# EAGLE library part 2.54_14P_SMD_HDR (library P1AM)
2.54mm (0.1") Pitch SIL SMT Pin Header, selective gold + tin, 10 contacts Source: Datasheet <https://cdn.harwin.com/pdfs/M20-877.pdf>
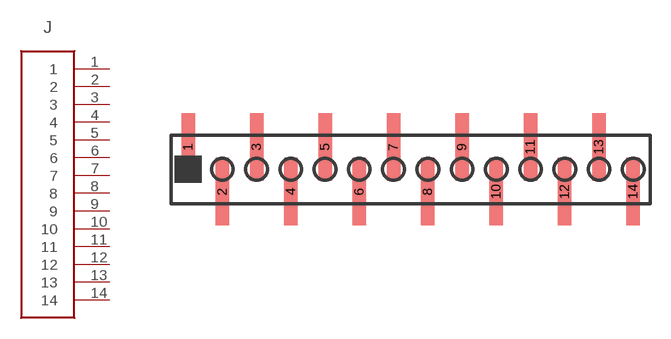
[diagram p1: symbol with the pads of 2.54_14P_SMD_HDR; footprint 2.54_14P_SMD_HDR]

Designator prefix J

## 2.54_14P_SMD_HDR  [2.54_14P_SMD_HDR]
1  1
2  2
3  3
4  4
5  5
6  6
7  7
8  8
9  9
10  10
11  11
12  12
13  13
14  14

## Footprint 2.54_14P_SMD_HDR (pad centres in mm)
smd 1 x 5: 1 0,1.655; 2 2.54,-1.655; 3 5.08,1.655; 4 7.62,-1.655; 5 10.16,1.655; 6 12.7,-1.655; 7 15.24,1.655; 8 17.78,-1.655; 9 20.32,1.655; 10 22.86,-1.655; 11 25.4,1.655; 12 27.94,-1.655; 13 30.48,1.655; 14 33.02,-1.655